# EAGLE library part PORT_IEEE_EDGE (library commodore)
IEEE connector for various Commodore computers, PET/CBM type, edge version
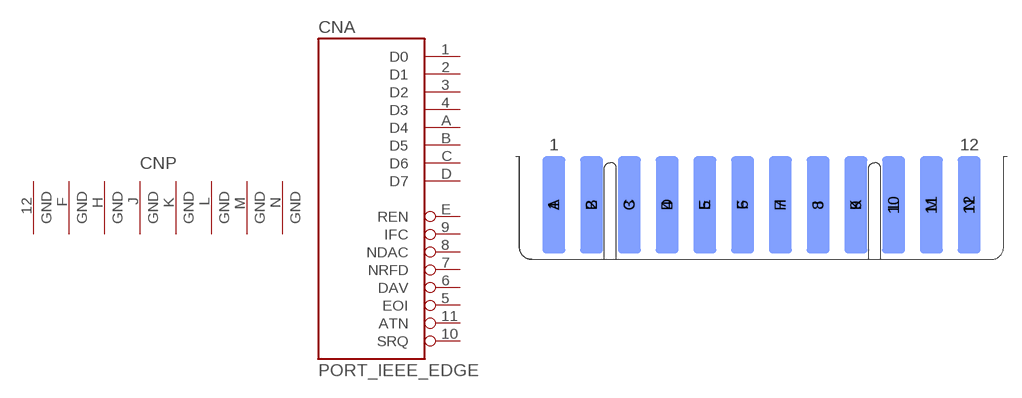
[diagram p38: symbol with the pads of MA156_12-2_IEEE; footprint MA156_12-2_IEEE]

Designator prefix CN; gates A=PORT_IEEE_EDGE P=GND8

## PORT_IEEE_EDGE  [MA156_12-2_IEEE]
1  A:D0
2  A:D1
3  A:D2
4  A:D3
5  A:EOI
6  A:DAV
7  A:NRFD
8  A:NDAC
9  A:IFC
10  A:SRQ
11  A:ATN
12  P:GND  pwr
A  A:D4
B  A:D5
C  A:D6
D  A:D7
E  A:REN
F  P:GND  pwr
H  P:GND  pwr
J  P:GND  pwr
K  P:GND  pwr
L  P:GND  pwr
M  P:GND  pwr
N  P:GND  pwr

## Footprint MA156_12-2_IEEE (pad centres in mm)
smd 2.388 x 10.16: 1 -21.793,0; 2 -17.831,0; 3 -13.868,0; 4 -9.906,0; 5 -5.944,0; 6 -1.981,0; 7 1.981,0; 8 5.944,0; 9 9.906,0; 10 13.868,0; 11 17.831,0; 12 21.793,0
smd 2.388 x 10.16 bottom: A -21.793,0; B -17.831,0; C -13.868,0; D -9.906,0; E -5.944,0; F -1.981,0; H 1.981,0; J 5.944,0; K 9.906,0; L 13.868,0; M 17.831,0; N 21.793,0